# Altium footprint library Inductance.PcbLib: 1 footprints
Each footprint in its own frame and in the unit in brackets; x right, y up, seen from the top. Pads: shape width x height; smd on the part's side, far side on the other; paste and mask are expansions set on the pad; w line width, h text height; cw(c..) or ccw(c..) is an arc to the next point about the centre after c.
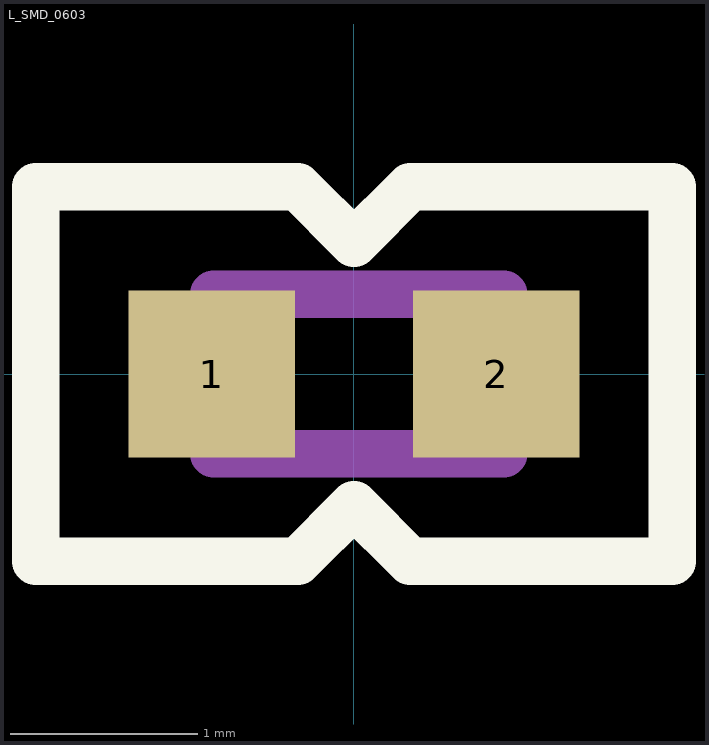
[diagram p0: the footprint, top view; thin cyan lines are the x and y axes]

## L_SMD_0603 [mm]
pads (2):
  rect 0.89x0.89 smd: 1(-0.76,0) 2(0.76,0)
Top Overlay:
  lines w0.254: -1.7,-1 -0.3,-1 0,-0.7 0.3,-1 1.7,-1 1.7,1 0.3,1 0,0.7 -0.3,1 -1.7,1 -1.7,-1
Mechanical 1:
  lines w0.254: -0.75,-0.425 0.8,-0.425 0.8,0.425 -0.75,0.425 -0.75,-0.425